# EAGLE library part MCP1252 (library PonLib)
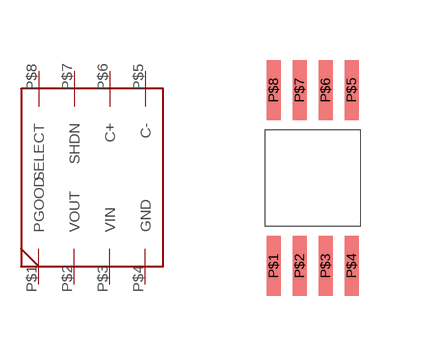
[diagram p25: symbol with the pads of MSOP-8; footprint MSOP-8]

Designator prefix -

## MCP1252  [MSOP-8]
P$1  PGOOD
P$2  VOUT
P$3  VIN
P$4  GND
P$5  C-
P$6  C+
P$7  SHDN
P$8  SELECT

## Footprint MSOP-8 (pad centres in mm)
smd 0.35 x 1.5: P$1 -0.975,-2.2; P$2 -0.325,-2.2; P$3 0.325,-2.2; P$4 0.975,-2.2; P$5 0.975,2.2; P$6 0.325,2.2; P$7 -0.325,2.2; P$8 -0.975,2.2